# EAGLE library part WIFI_AMW004 (library Ilya_Teach)
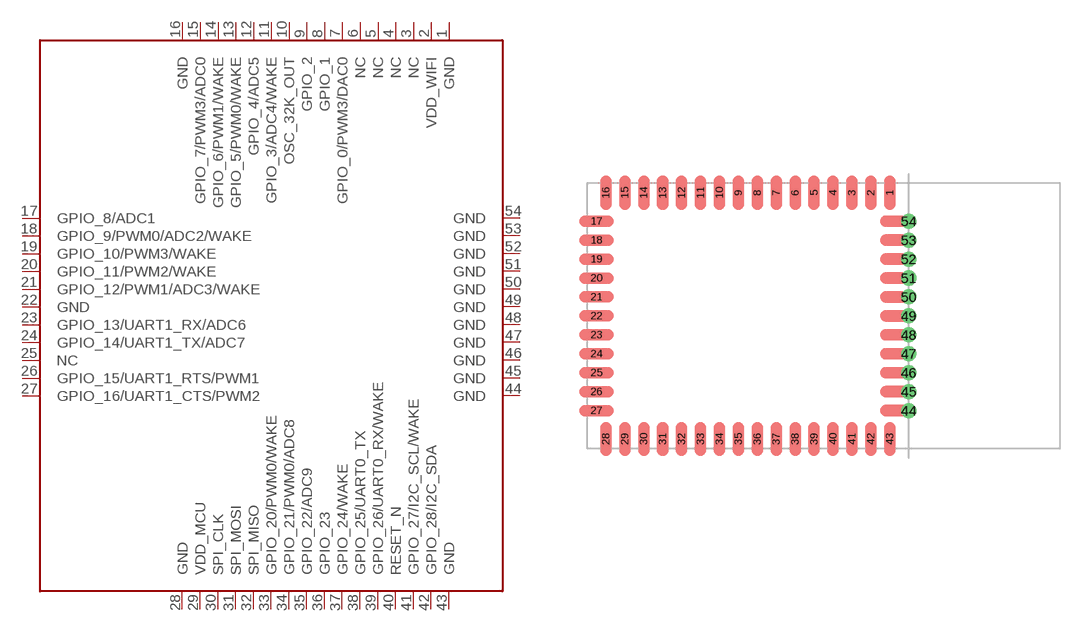
[diagram p7: symbol with the pads of AMW004; footprint AMW004]

Designator prefix -

## WIFI_AMW004  [AMW004]
1  GND
2  VDD_WIFI
3  NC
4  NC
5  NC
6  NC
7  GPIO_0/PWM3/DAC0
8  GPIO_1
9  GPIO_2
10  OSC_32K_OUT
11  GPIO_3/ADC4/WAKE
12  GPIO_4/ADC5
13  GPIO_5/PWM0/WAKE
14  GPIO_6/PWM1/WAKE
15  GPIO_7/PWM3/ADC0
16  GND
17  GPIO_8/ADC1
18  GPIO_9/PWM0/ADC2/WAKE
19  GPIO_10/PWM3/WAKE
20  GPIO_11/PWM2/WAKE
21  GPIO_12/PWM1/ADC3/WAKE
22  GND
23  GPIO_13/UART1_RX/ADC6
24  GPIO_14/UART1_TX/ADC7
25  NC
26  GPIO_15/UART1_RTS/PWM1
27  GPIO_16/UART1_CTS/PWM2
28  GND
29  VDD_MCU
30  SPI_CLK
31  SPI_MOSI
32  SPI_MISO
33  GPIO_20/PWM0/WAKE
34  GPIO_21/PWM0/ADC8
35  GPIO_22/ADC9
36  GPIO_23
37  GPIO_24/WAKE
38  GPIO_25/UART0_TX
39  GPIO_26/UART0_RX/WAKE
40  RESET_N
41  GPIO_27/I2C_SCL/WAKE
42  GPIO_28/I2C_SDA
43  GND
44  GND
45  GND
46  GND
47  GND
48  GND
49  GND
50  GND
51  GND
52  GND
53  GND
54  GND

## Footprint AMW004 (pad centres in mm)
smd 0.762 x 2.286: 1 20.32,8.255; 2 19.05,8.255; 3 17.78,8.255; 4 16.51,8.255; 5 15.24,8.255; 6 13.97,8.255; 7 12.7,8.255; 8 11.43,8.255; 9 10.16,8.255; 10 8.89,8.255; 11 7.62,8.255; 12 6.35,8.255; 13 5.08,8.255; 14 3.81,8.255; 15 2.54,8.255; 16 1.27,8.255; 28 1.27,-8.255; 29 2.54,-8.255; 30 3.81,-8.255; 31 5.08,-8.255; 32 6.35,-8.255; 33 7.62,-8.255; 34 8.89,-8.255; 35 10.16,-8.255; 36 11.43,-8.255; 37 12.7,-8.255; 38 13.97,-8.255; 39 15.24,-8.255; 40 16.51,-8.255; 41 17.78,-8.255; 42 19.05,-8.255; 43 20.32,-8.255
smd 2.286 x 0.762: 17 0.635,6.35; 18 0.635,5.08; 19 0.635,3.81; 20 0.635,2.54; 21 0.635,1.27; 22 0.635,0; 23 0.635,-1.27; 24 0.635,-2.54; 25 0.635,-3.81; 26 0.635,-5.08; 27 0.635,-6.35
drill 0.5 pad 1: 44 21.59,-6.35; 45 21.59,-5.08; 46 21.59,-3.81; 47 21.59,-2.54; 48 21.59,-1.27; 49 21.59,0; 50 21.59,1.27; 51 21.59,2.54; 52 21.59,3.81; 53 21.59,5.08; 54 21.59,6.35